# Altium footprint library STM32F051C6Breakout.PcbLib: 1 footprints
Each footprint in its own frame and in the unit in brackets; x right, y up, seen from the top. Pads: shape width x height; smd on the part's side, far side on the other; paste and mask are expansions set on the pad; w line width, h text height; cw(c..) or ccw(c..) is an arc to the next point about the centre after c.
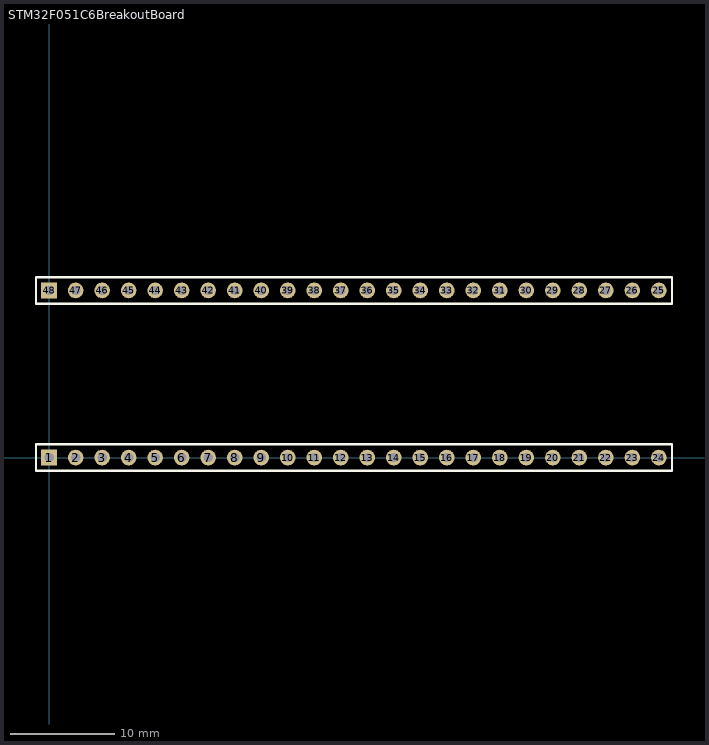
[diagram p0: the footprint, top view; thin cyan lines are the x and y axes]

## STM32F051C6BreakoutBoard [mm]
height 0.381
pads (48):
  rect 1.5x1.5 hole 0.9: 1(0,0) 48(0,16.002)
  round 1.5 hole 0.9: 2(2.54,0) 3(5.08,0) 4(7.62,0) 5(10.16,0) 6(12.7,0) 7(15.24,0) 8(17.78,0) 9(20.32,0) 10(22.86,0) 11(25.4,0) 12(27.94,0) 13(30.48,0) 14(33.02,0) 15(35.56,0) 16(38.1,0) 17(40.64,0) 18(43.18,0) 19(45.72,0) 20(48.26,0) 21(50.8,0) 22(53.34,0) 23(55.88,0) 24(58.42,0) 25(58.42,16.002) 26(55.88,16.002) 27(53.34,16.002) 28(50.8,16.002) 29(48.26,16.002) 30(45.72,16.002) 31(43.18,16.002) 32(40.64,16.002) 33(38.1,16.002) 34(35.56,16.002) 35(33.02,16.002) 36(30.48,16.002) 37(27.94,16.002) 38(25.4,16.002) 39(22.86,16.002) 40(20.32,16.002) 41(17.78,16.002) 42(15.24,16.002) 43(12.7,16.002) 44(10.16,16.002) 45(7.62,16.002) 46(5.08,16.002) 47(2.54,16.002)
Top Overlay:
  lines w0.2: -1.27,-1.27 59.69,-1.27 59.69,1.27 0.635,1.27 -1.27,1.27 -1.27,-1.27 ; -1.27,14.732 -1.27,17.272 0.635,17.272 59.69,17.272 59.69,14.732 -1.27,14.732